# EAGLE library part TOSHIBA-NAND-GATE (library TOSHIBA_NAND-GATE)
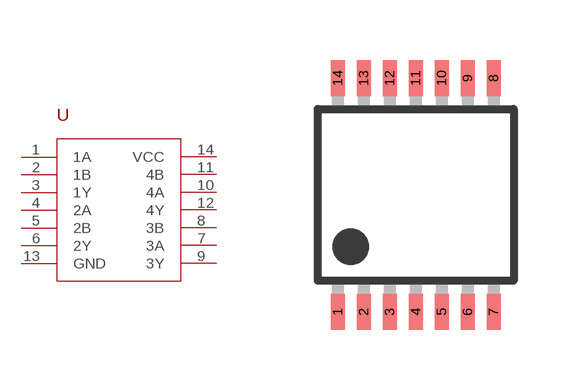
[diagram p0: symbol with the pads of TSSOP14; footprint TSSOP14]

Designator prefix -

## TOSHIBA-NAND-GATE  [TSSOP14]
1  1A
2  1B
3  1Y
4  2A
5  2B
6  2Y
7  3A
8  3B
9  3Y
10  4A
11  4B
12  4Y
13  GND
14  VCC

## Footprint TSSOP14 (pad centres in mm)
plastic thin shrink small outline package; 14 leads; body width 4.4 mm SOT402-1 Source: http://www.nxp.com/documents/data_sheet/74ABT125.pdf
smd 0.35 x 0.9: 1 -1.95,-2.925; 2 -1.3,-2.925; 3 -0.65,-2.925; 4 0,-2.925; 5 0.65,-2.925; 6 1.3,-2.925; 7 1.95,-2.925; 8 1.95,2.925; 9 1.3,2.925; 10 0.65,2.925; 11 0,2.925; 12 -0.65,2.925; 13 -1.3,2.925; 14 -1.95,2.925